# Altium schematic symbol library temperature_sensor.SchLib: 4 symbols
Pins are listed as number, name and electrical type; pins without a type are passive.

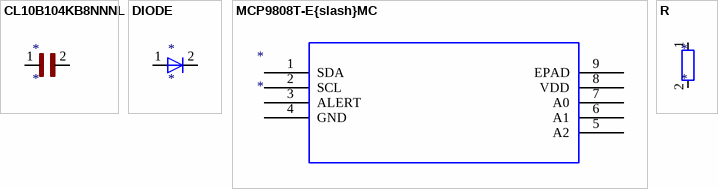
[diagram p0: symbols CL10B104KB8NNNL to R]

## CL10B104KB8NNNL
designator *
pins: 1, 2

## DIODE
designator *
pins: 1 A, 2 K

## MCP9808T-E{slash}MC
designator *
pins: 1 SDA, 2 SCL, 3 ALERT, 4 GND, 5 A2, 6 A1, 7 A0, 8 VDD, 9 EPAD

## R
designator *
pins: 1, 2